# EAGLE library part 516-2663-6-ND (library eric_personal_parts)
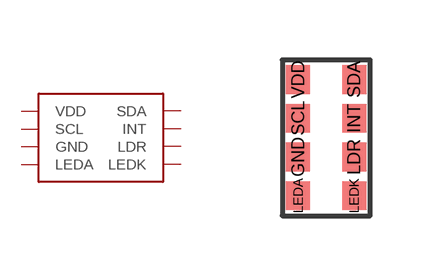
[diagram p7: symbol with the pads of APDS-9190; footprint APDS-9190]

Designator prefix -

## 516-2663-6-ND  [APDS-9190]
GND  GND
INT  INT
LDR  LDR
LEDA  LEDA
LEDK  LEDK
SCL  SCL
SDA  SDA
VDD  VDD

## Footprint APDS-9190 (pad centres in mm)
smd 0.6 x 0.72: GND 0,0.97; INT 1.4,1.94; LDR 1.4,0.97; LEDA 0,0; LEDK 1.4,0; SCL 0,1.94; SDA 1.4,2.91; VDD 0,2.91